# Altium schematic symbol library 同步整流.SCHLIB: 18 symbols
Pins are listed as number, name and electrical type; pins without a type are passive.

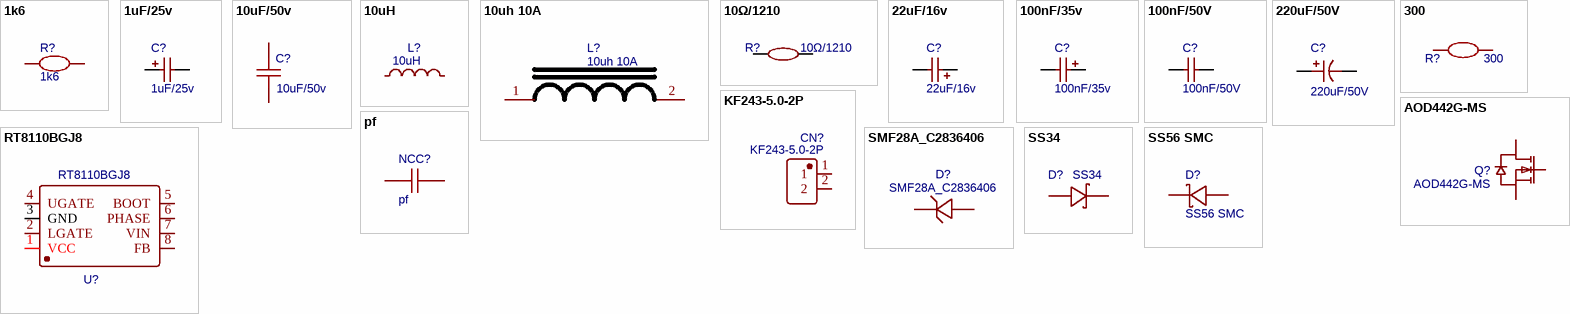
[diagram p0: symbols 1k6 to SS56 SMC]

## 1k6
designator R?
nameAlias: Value(Ω); Contributor: LCEDA_Lib; spicePre: R; spiceSymbolName: R_0805_EU
footprint R0603
pins: 1, 2

## 1uF/25v
designator C?
BOM_Manufacturer: AVX; BOM_Manufacturer Part: TAJA105K025RNJ; nameAlias: Capacitance; BOM_Supplier: LCSC; BOM_Supplier Part: C7175; BOM_JLCPCB Part Class: Extended Part; spicePre: C; spiceSymbolName: TAJA105K025RNJ
footprint CAP-SMD_L3.2-W1.6-RD
pins: 1, 2

## 10uF/50v
designator C?
BOM_Manufacturer: Samsung Electro-Mechanics; BOM_Manufacturer Part: CL32B106KBJNNNE; nameAlias: Capacitance; Contributor: LCSC; BOM_Supplier: LCSC; BOM_Supplier Part: C138687; BOM_JLCPCB Part Class: Extended Part; spicePre: C; spiceSymbolName: CL32B106KBJNNNE
footprint C1210
pins: 1, 2

## 10uH
designator L?
BOM_Manufacturer: microgate; BOM_Manufacturer Part: MGFL2012F100MT-LF; nameAlias: Inductance; Contributor: LCSC; BOM_Supplier: LCSC; BOM_Supplier Part: C281113; BOM_JLCPCB Part Class: Extended Part; spicePre: L; spiceSymbolName: MGFL2012F100MT-LF
footprint L0805
pins: 1, 2

## 10uh 10A
designator L?
Contributor: Guest; BOM_Supplier: LCSC; spicePre: L; spiceSymbolName: 10uh 10A
footprint 10UH 磁环电感 10A
pins: 1, 2

## 10Ω/1210
designator R?
BOM_Manufacturer: UniOhm; BOM_Manufacturer Part: 1210W3F100JT5E; nameAlias: Resistance; Resistance (Ohms): 10; BOM_Supplier: LCSC; BOM_Supplier Part: C44451; BOM_JLCPCB Part Class: Extended Part; spicePre: R; spiceSymbolName: 1210W3F100JT5E
footprint R1210
pins: 1, 2

## 22uF/16v
designator C?
BOM_Manufacturer: AVX; BOM_Manufacturer Part: TAJC226K016RNJ; nameAlias: Capacitance; BOM_Supplier: LCSC; BOM_Supplier Part: C11376; BOM_JLCPCB Part Class: Extended Part; spicePre: C; spiceSymbolName: TAJC226K016RNJ
footprint CAP-SMD_L6.0-W3.2-R-RD
pins: 1, 2

## 100nF/35v
designator C?
BOM_Manufacturer: AVX; BOM_Manufacturer Part: TAJA104K035RNJ; nameAlias: Capacitance; BOM_Supplier: LCSC; BOM_Supplier Part: C7173; BOM_JLCPCB Part Class: Extended Part; spicePre: C; spiceSymbolName: TAJA104K035RNJ
footprint CAP-SMD_L3.2-W1.6
pins: 1, 2

## 100nF/50V
designator C?
BOM_Manufacturer: FH; BOM_Manufacturer Part: 1210B104K500NT; nameAlias: Capacitance; BOM_Supplier: LCSC; BOM_Supplier Part: C76567; BOM_JLCPCB Part Class: Extended Part; spicePre: C; spiceSymbolName: 1210B104K500NT
footprint C1210
pins: 1, 2

## 220uF/50V
designator C?
BOM_Manufacturer: 瑞隆; BOM_Manufacturer Part: 8221LFM1013H2RR00O; nameAlias: Capacitance; Contributor: LCSC; BOM_Supplier: LCSC; BOM_Supplier Part: C915761; BOM_JLCPCB Part Class: Extended Part; spicePre: C; spiceSymbolName: 8221LFM1013H2RR00O
footprint CAP-TH_BD10.0-P5.00-D0.6-FD
pins: 1, 2

## 300
designator R?
nameAlias: Value(Ω); Contributor: LCEDA_Lib; spicePre: R; spiceSymbolName: R_0805_EU
footprint R0603
pins: 1, 2

## AOD442G-MS
designator Q?
BOM_Manufacturer: MSKSEMI(美森科); Contributor: LCSC; BOM_Supplier: LCSC; BOM_Supplier Part: C2982213; BOM_Manufacturer Part: AOD442G-MS; link: https://atta.szlcsc.comnull; spicePre: Q; spiceSymbolName: AOD442G-MS
footprint TO-252-3_L6.6-W6.1-P4.57-LS9.9-BR-CW
pins: 1 G, 2 D, 3 S

## KF243-5.0-2P
designator CN?
BOM_Manufacturer: Cixi Kefa Elec; Contributor: LCSC; BOM_Supplier: LCSC; BOM_Supplier Part: C475222; BOM_Manufacturer Part: KF243-5.0-2P; BOM_JLCPCB Part Class: Extended Part; spicePre: C; spiceSymbolName: KF243-5.0-2P
footprint CONN-TH_P5.00_KF243-5.0-2P
pins: 1, 2

## pf
designator NCC?
nameAlias: Value(F); Contributor: LCEDA_Lib; spicePre: C; spiceSymbolName: C_0805_US
footprint C0603
pins: 1, 2

## RT8110BGJ8
designator U?
BOM_Manufacturer: RICHTEK; BOM_Supplier: LCSC; BOM_Manufacturer Part: RT8110BGJ8; BOM_Supplier Part: C27917; BOM_JLCPCB Part Class: Extended Part; spicePre: U; spiceSymbolName: RT8110BGJ8
footprint TSOT-23-8_L2.9-W1.6-P0.65-LS2.8-BR
pins: 1 VCC, 2 LGATE, 3 GND, 4 UGATE, 5 BOOT, 6 PHASE, 7 VIN, 8 FB

## SMF28A_C2836406
designator D?
BOM_Manufacturer: MSKSEMI(美森科); BOM_Manufacturer Part: SMF28A; Contributor: LCSC; BOM_Supplier: LCSC; BOM_Supplier Part: C2836406; BOM_JLCPCB Part Class: Extended Part; spicePre: D; spiceSymbolName: SMF28A_C2836406
footprint SOD-123FL_L2.8-W1.8-LS3.8-RD
pins: 1 C, 2 A

## SS34
designator D?
BOM_Manufacturer: MDD; BOM_Supplier: LCSC; BOM_Manufacturer Part: SS34; BOM_Supplier Part: C8678; BOM_JLCPCB Part Class: Basic Part; spicePre: D; spiceSymbolName: SS34_C8678
footprint DO-214AC_L4.3-W2.7-LS5.3-RD
pins: 1 K, 2 A

## SS56 SMC
designator D?
BOM_Manufacturer: MDD; BOM_Supplier: LCSC; BOM_Manufacturer Part: SS56 SMC; BOM_Supplier Part: C24138; BOM_JLCPCB Part Class: Extended Part; spicePre: D; spiceSymbolName: SS56 SMC
footprint SMC_L7.1-W6.2-LS8.1-R-RD
pins: 1 A, 2 K